# Altium schematic symbol library yu0316-NSC_LDO.SchLib: 2590 symbols (part 37 of 64)
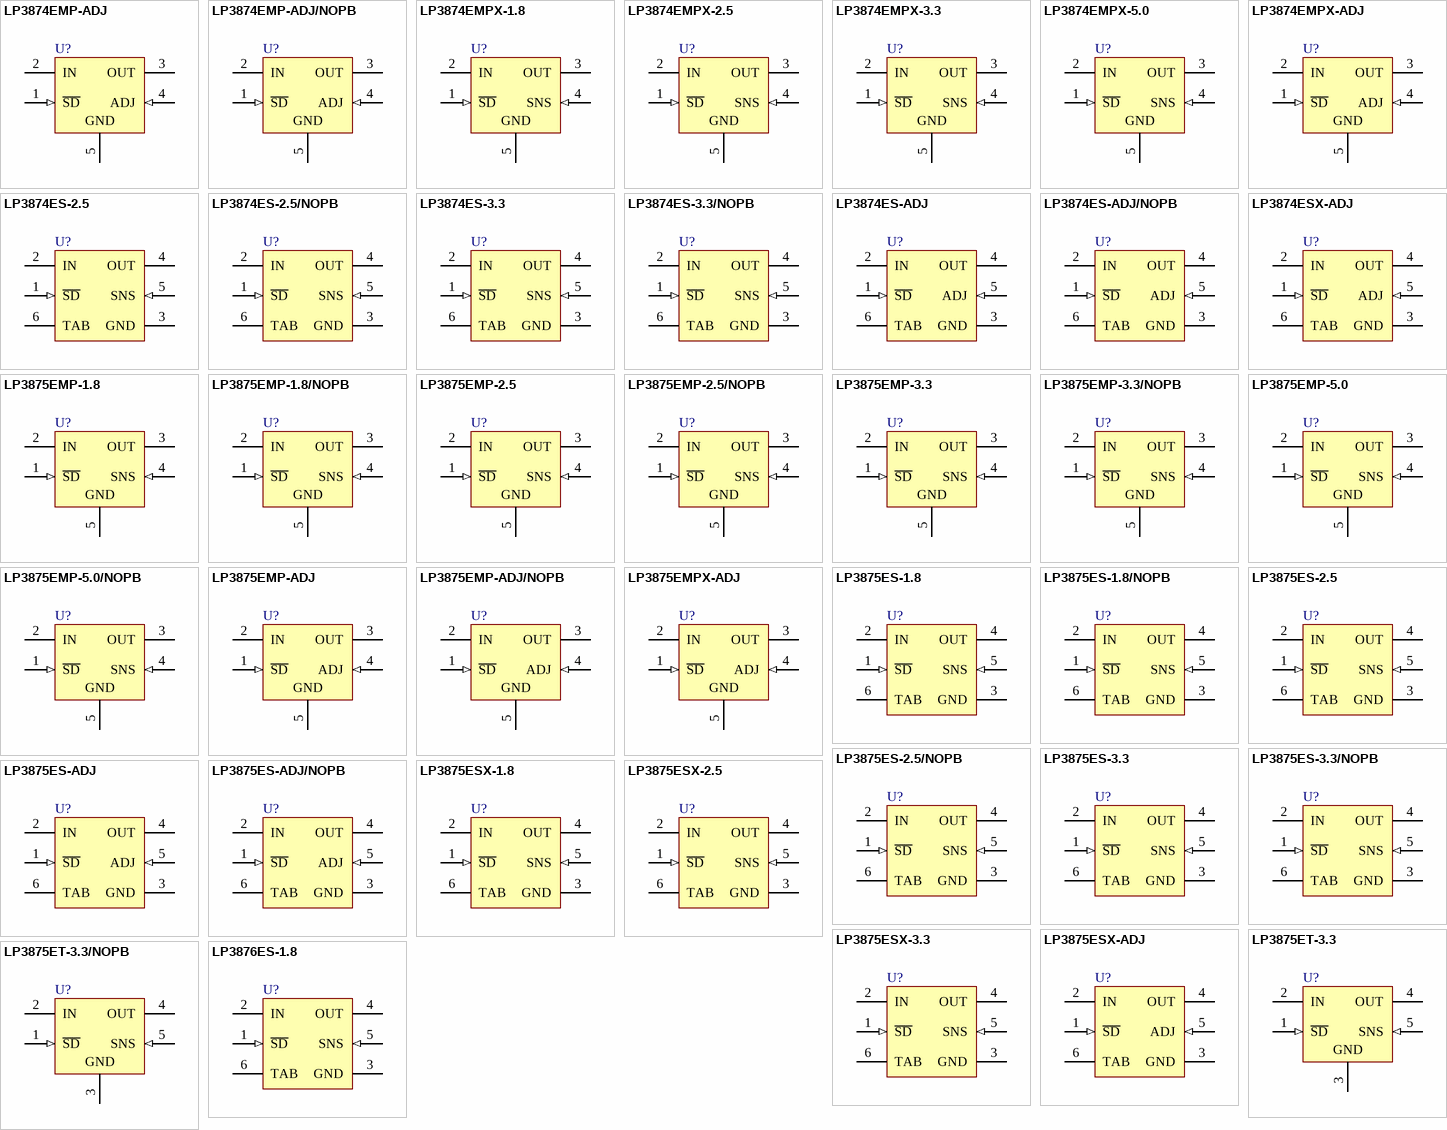
[diagram p101: symbols LP3874EMP-ADJ to LP3876ES-1.8]

## LP3875EMP-2.5
designator U?
1.5A Fast Ultra Low Dropout Linear Regulator, 5-pin SOT-223; PartNumber: LP3875EMP-2.5; Manufacturer: National Semiconductor; PackageTopMarking: XYTT*LHNB; PowerWise: N; CompType: LDO IC; Published: 4-Dec-2008; DatasheetVersion: Sep-2006; PackageVersion: revA, Jan-2000; PackageReference: MP05A; Publisher: Altium Limited; PackageDescription: Moldec SOT-223, 6.50 x 3.56 x 1.6mm Body, 5 Lead, 1.5mm Pitch; Supplier 1: Farnell; Supplier Part Number 1: 8188653; RoHS: N; PinCount: 5; Code_JEDEC: TO-261-AB; Code_IPC: SOT223-5; ComponentLink1Description: LP3875 Datasheet; ComponentLink1URL: http://www.national.com/ds/LP/LP3875.pdf; ComponentLink2Description: LP3875 Web Page; ComponentLink2URL: http://www.national.com/pf/LP/LP3875.html; ComponentLink3Description: MP05A Package Page; ComponentLink3URL: http://www.national.com/packaging/folders/mp05a.html
footprint MP05A_N (SOT223, 5-Leads, Body 6.5x3.5mm, Pitch 1.5mm, Lead Span 7mm, IPC Medium Density)
footprint MP05A_L (SOT223, 5-Leads, Body 6.5x3.5mm, Pitch 1.5mm, Lead Span 7mm, IPC High Density)
footprint MP05A_M (SOT223, 5-Leads, Body 6.5x3.5mm, Pitch 1.5mm, Lead Span 7mm, IPC Low Density)
pins: 1 ~{SD} (in), 2 IN (power), 3 OUT (power), 4 SNS (in), 5 GND (power)

## LP3875EMP-2.5/NOPB
designator U?
1.5A Fast Ultra Low Dropout Linear Regulator, 5-pin SOT-223, Pb-Free; PartNumber: LP3875EMP-2.5/NOPB; Manufacturer: National Semiconductor; PackageTopMarking: XYTT*LHNB; PowerWise: N; CompType: LDO IC; Published: 1-Mar-2010; DatasheetVersion: Sep-2006; PackageVersion: revA, Jan-2000; PackageReference: MP05A; Publisher: Altium Limited; PackageDescription: Moldec SOT-223, 6.50 x 3.56 x 1.6mm Body, 5 Lead, 1.5mm Pitch; Supplier 1: Digi-Key; Supplier Part Number 1: LP3875EMP-2.5TR-ND; Supplier 2: Digi-Key; Supplier Part Number 2: LP3875EMP-2.5CT-ND; Supplier 3: Digi-Key; Supplier Part Number 3: LP3875EMP-2.5DKR-ND; RoHS: Y; PinCount: 5; Code_JEDEC: TO-261-AB; Code_IPC: SOT223-5; ComponentLink1Description: LP3875 Datasheet; ComponentLink1URL: http://www.national.com/ds/LP/LP3875.pdf; ComponentLink2Description: LP3875 Web Page; ComponentLink2URL: http://www.national.com/pf/LP/LP3875.html; ComponentLink3Description: MP05A Package Page; ComponentLink3URL: http://www.national.com/packaging/folders/mp05a.html
footprint MP05A_N (SOT223, 5-Leads, Body 6.5x3.5mm, Pitch 1.5mm, Lead Span 7mm, IPC Medium Density)
footprint MP05A_L (SOT223, 5-Leads, Body 6.5x3.5mm, Pitch 1.5mm, Lead Span 7mm, IPC High Density)
footprint MP05A_M (SOT223, 5-Leads, Body 6.5x3.5mm, Pitch 1.5mm, Lead Span 7mm, IPC Low Density)
pins: 1 ~{SD} (in), 2 IN (power), 3 OUT (power), 4 SNS (in), 5 GND (power)

## LP3875EMP-3.3
designator U?
1.5A Fast Ultra Low Dropout Linear Regulator, 5-pin SOT-223; PartNumber: LP3875EMP-3.3; Manufacturer: National Semiconductor; PackageTopMarking: XYTT*LHPB; PowerWise: N; CompType: LDO IC; Published: 4-Dec-2008; DatasheetVersion: Sep-2006; PackageVersion: revA, Jan-2000; PackageReference: MP05A; Publisher: Altium Limited; PackageDescription: Moldec SOT-223, 6.50 x 3.56 x 1.6mm Body, 5 Lead, 1.5mm Pitch; Supplier 1: Farnell; Supplier Part Number 1: 8188661; RoHS: N; PinCount: 5; Code_JEDEC: TO-261-AB; Code_IPC: SOT223-5; ComponentLink1Description: LP3875 Datasheet; ComponentLink1URL: http://www.national.com/ds/LP/LP3875.pdf; ComponentLink2Description: LP3875 Web Page; ComponentLink2URL: http://www.national.com/pf/LP/LP3875.html; ComponentLink3Description: MP05A Package Page; ComponentLink3URL: http://www.national.com/packaging/folders/mp05a.html
footprint MP05A_N (SOT223, 5-Leads, Body 6.5x3.5mm, Pitch 1.5mm, Lead Span 7mm, IPC Medium Density)
footprint MP05A_L (SOT223, 5-Leads, Body 6.5x3.5mm, Pitch 1.5mm, Lead Span 7mm, IPC High Density)
footprint MP05A_M (SOT223, 5-Leads, Body 6.5x3.5mm, Pitch 1.5mm, Lead Span 7mm, IPC Low Density)
pins: 1 ~{SD} (in), 2 IN (power), 3 OUT (power), 4 SNS (in), 5 GND (power)

## LP3875EMP-3.3/NOPB
designator U?
1.5A Fast Ultra Low Dropout Linear Regulator, 5-pin SOT-223, Pb-Free; PartNumber: LP3875EMP-3.3/NOPB; Manufacturer: National Semiconductor; PackageTopMarking: XYTT*LHPB; PowerWise: N; CompType: LDO IC; Published: 1-Mar-2010; DatasheetVersion: Sep-2006; PackageVersion: revA, Jan-2000; PackageReference: MP05A; Publisher: Altium Limited; PackageDescription: Moldec SOT-223, 6.50 x 3.56 x 1.6mm Body, 5 Lead, 1.5mm Pitch; Supplier 1: Digi-Key; Supplier Part Number 1: LP3875EMP-3.3TR-ND; Supplier 2: Digi-Key; Supplier Part Number 2: LP3875EMP-3.3CT-ND; Supplier 3: Digi-Key; Supplier Part Number 3: LP3875EMP-3.3DKR-ND; Supplier 4: Farnell; Supplier Part Number 4: 1685728; RoHS: Y; PinCount: 5; Code_JEDEC: TO-261-AB; Code_IPC: SOT223-5; ComponentLink1Description: LP3875 Datasheet; ComponentLink1URL: http://www.national.com/ds/LP/LP3875.pdf; ComponentLink2Description: LP3875 Web Page; ComponentLink2URL: http://www.national.com/pf/LP/LP3875.html; ComponentLink3Description: MP05A Package Page; ComponentLink3URL: http://www.national.com/packaging/folders/mp05a.html
footprint MP05A_N (SOT223, 5-Leads, Body 6.5x3.5mm, Pitch 1.5mm, Lead Span 7mm, IPC Medium Density)
footprint MP05A_L (SOT223, 5-Leads, Body 6.5x3.5mm, Pitch 1.5mm, Lead Span 7mm, IPC High Density)
footprint MP05A_M (SOT223, 5-Leads, Body 6.5x3.5mm, Pitch 1.5mm, Lead Span 7mm, IPC Low Density)
pins: 1 ~{SD} (in), 2 IN (power), 3 OUT (power), 4 SNS (in), 5 GND (power)

## LP3875EMP-5.0
designator U?
1.5A Fast Ultra Low Dropout Linear Regulator, 5-pin SOT-223; PartNumber: LP3875EMP-5.0; Manufacturer: National Semiconductor; PackageTopMarking: XYTT*LHRB; PowerWise: N; CompType: LDO IC; Published: 4-Dec-2008; DatasheetVersion: Sep-2006; PackageVersion: revA, Jan-2000; PackageReference: MP05A; Publisher: Altium Limited; PackageDescription: Moldec SOT-223, 6.50 x 3.56 x 1.6mm Body, 5 Lead, 1.5mm Pitch; Supplier 1: Farnell; Supplier Part Number 1: 8188670; RoHS: N; PinCount: 5; Code_JEDEC: TO-261-AB; Code_IPC: SOT223-5; ComponentLink1Description: LP3875 Datasheet; ComponentLink1URL: http://www.national.com/ds/LP/LP3875.pdf; ComponentLink2Description: LP3875 Web Page; ComponentLink2URL: http://www.national.com/pf/LP/LP3875.html; ComponentLink3Description: MP05A Package Page; ComponentLink3URL: http://www.national.com/packaging/folders/mp05a.html
footprint MP05A_N (SOT223, 5-Leads, Body 6.5x3.5mm, Pitch 1.5mm, Lead Span 7mm, IPC Medium Density)
footprint MP05A_L (SOT223, 5-Leads, Body 6.5x3.5mm, Pitch 1.5mm, Lead Span 7mm, IPC High Density)
footprint MP05A_M (SOT223, 5-Leads, Body 6.5x3.5mm, Pitch 1.5mm, Lead Span 7mm, IPC Low Density)
pins: 1 ~{SD} (in), 2 IN (power), 3 OUT (power), 4 SNS (in), 5 GND (power)

## LP3875EMP-5.0/NOPB
designator U?
1.5A Fast Ultra Low Dropout Linear Regulator, 5-pin SOT-223, Pb-Free; PartNumber: LP3875EMP-5.0/NOPB; Manufacturer: National Semiconductor; PackageTopMarking: XYTT*LHRB; PowerWise: N; CompType: LDO IC; Published: 1-Mar-2010; DatasheetVersion: Sep-2006; PackageVersion: revA, Jan-2000; PackageReference: MP05A; Publisher: Altium Limited; PackageDescription: Moldec SOT-223, 6.50 x 3.56 x 1.6mm Body, 5 Lead, 1.5mm Pitch; Supplier 1: Digi-Key; Supplier Part Number 1: LP3875EMP-5.0TR-ND; Supplier 2: Digi-Key; Supplier Part Number 2: LP3875EMP-5.0CT-ND; Supplier 3: Digi-Key; Supplier Part Number 3: LP3875EMP-5.0DKR-ND; RoHS: Y; PinCount: 5; Code_JEDEC: TO-261-AB; Code_IPC: SOT223-5; ComponentLink1Description: LP3875 Datasheet; ComponentLink1URL: http://www.national.com/ds/LP/LP3875.pdf; ComponentLink2Description: LP3875 Web Page; ComponentLink2URL: http://www.national.com/pf/LP/LP3875.html; ComponentLink3Description: MP05A Package Page; ComponentLink3URL: http://www.national.com/packaging/folders/mp05a.html
footprint MP05A_N (SOT223, 5-Leads, Body 6.5x3.5mm, Pitch 1.5mm, Lead Span 7mm, IPC Medium Density)
footprint MP05A_L (SOT223, 5-Leads, Body 6.5x3.5mm, Pitch 1.5mm, Lead Span 7mm, IPC High Density)
footprint MP05A_M (SOT223, 5-Leads, Body 6.5x3.5mm, Pitch 1.5mm, Lead Span 7mm, IPC Low Density)
pins: 1 ~{SD} (in), 2 IN (power), 3 OUT (power), 4 SNS (in), 5 GND (power)

## LP3875EMP-ADJ
designator U?
1.5A Fast Ultra Low Dropout Linear Regulator, 5-pin SOT-223; PartNumber: LP3875EMP-ADJ; Manufacturer: National Semiconductor; PackageTopMarking: XYTT*LHSB; PowerWise: N; CompType: LDO IC; Published: 4-Dec-2008; DatasheetVersion: Sep-2006; PackageVersion: revA, Jan-2000; PackageReference: MP05A; Publisher: Altium Limited; PackageDescription: Moldec SOT-223, 6.50 x 3.56 x 1.6mm Body, 5 Lead, 1.5mm Pitch; Supplier 1: Farnell; Supplier Part Number 1: 8188688; RoHS: N; PinCount: 5; Code_JEDEC: TO-261-AB; Code_IPC: SOT223-5; ComponentLink1Description: LP3875 Datasheet; ComponentLink1URL: http://www.national.com/ds/LP/LP3875-ADJ.pdf; ComponentLink2Description: LP3875 Web Page; ComponentLink2URL: http://www.national.com/pf/LP/LP3875.html; ComponentLink3Description: MP05A Package Page; ComponentLink3URL: http://www.national.com/packaging/folders/mp05a.html
footprint MP05A_N (SOT223, 5-Leads, Body 6.5x3.5mm, Pitch 1.5mm, Lead Span 7mm, IPC Medium Density)
footprint MP05A_L (SOT223, 5-Leads, Body 6.5x3.5mm, Pitch 1.5mm, Lead Span 7mm, IPC High Density)
footprint MP05A_M (SOT223, 5-Leads, Body 6.5x3.5mm, Pitch 1.5mm, Lead Span 7mm, IPC Low Density)
pins: 1 ~{SD} (in), 2 IN (power), 3 OUT (power), 4 ADJ (in), 5 GND (power)

## LP3875EMP-ADJ/NOPB
designator U?
1.5A Fast Ultra Low Dropout Linear Regulator, 5-pin SOT-223, Pb-Free; PartNumber: LP3875EMP-ADJ/NOPB; Manufacturer: National Semiconductor; PackageTopMarking: XYTT*LHSB; PowerWise: N; CompType: LDO IC; Published: 1-Mar-2010; DatasheetVersion: Sep-2006; PackageVersion: revA, Jan-2000; PackageReference: MP05A; Publisher: Altium Limited; PackageDescription: Moldec SOT-223, 6.50 x 3.56 x 1.6mm Body, 5 Lead, 1.5mm Pitch; Supplier 1: Digi-Key; Supplier Part Number 1: LP3875EMP-ADJTR-ND; Supplier 2: Digi-Key; Supplier Part Number 2: LP3875EMP-ADJCT-ND; Supplier 3: Digi-Key; Supplier Part Number 3: LP3875EMP-ADJDKR-ND; Supplier 4: Farnell; Supplier Part Number 4: 1559669; RoHS: Y; PinCount: 5; Code_JEDEC: TO-261-AB; Code_IPC: SOT223-5; ComponentLink1Description: LP3875 Datasheet; ComponentLink1URL: http://www.national.com/ds/LP/LP3875-ADJ.pdf; ComponentLink2Description: LP3875 Web Page; ComponentLink2URL: http://www.national.com/pf/LP/LP3875.html; ComponentLink3Description: MP05A Package Page; ComponentLink3URL: http://www.national.com/packaging/folders/mp05a.html
footprint MP05A_N (SOT223, 5-Leads, Body 6.5x3.5mm, Pitch 1.5mm, Lead Span 7mm, IPC Medium Density)
footprint MP05A_L (SOT223, 5-Leads, Body 6.5x3.5mm, Pitch 1.5mm, Lead Span 7mm, IPC High Density)
footprint MP05A_M (SOT223, 5-Leads, Body 6.5x3.5mm, Pitch 1.5mm, Lead Span 7mm, IPC Low Density)
pins: 1 ~{SD} (in), 2 IN (power), 3 OUT (power), 4 ADJ (in), 5 GND (power)

## LP3875EMPX-ADJ
designator U?
1.5A Fast Ultra Low Dropout Linear Regulator, 5-pin SOT-223; PartNumber: LP3875EMPX-ADJ; Manufacturer: National Semiconductor; PackageTopMarking: XYTT*LHSB; PowerWise: N; CompType: LDO IC; Published: 1-Mar-2010; DatasheetVersion: Sep-2006; PackageVersion: revA, Jan-2000; PackageReference: MP05A; Publisher: Altium Limited; PackageDescription: Moldec SOT-223, 6.50 x 3.56 x 1.6mm Body, 5 Lead, 1.5mm Pitch; RoHS: N; PinCount: 5; Code_JEDEC: TO-261-AB; Code_IPC: SOT223-5; ComponentLink1Description: LP3875 Datasheet; ComponentLink1URL: http://www.national.com/ds/LP/LP3875-ADJ.pdf; ComponentLink2Description: LP3875 Web Page; ComponentLink2URL: http://www.national.com/pf/LP/LP3875.html; ComponentLink3Description: MP05A Package Page; ComponentLink3URL: http://www.national.com/packaging/folders/mp05a.html
footprint MP05A_N (SOT223, 5-Leads, Body 6.5x3.5mm, Pitch 1.5mm, Lead Span 7mm, IPC Medium Density)
footprint MP05A_L (SOT223, 5-Leads, Body 6.5x3.5mm, Pitch 1.5mm, Lead Span 7mm, IPC High Density)
footprint MP05A_M (SOT223, 5-Leads, Body 6.5x3.5mm, Pitch 1.5mm, Lead Span 7mm, IPC Low Density)
pins: 1 ~{SD} (in), 2 IN (power), 3 OUT (power), 4 ADJ (in), 5 GND (power)

## LP3875ES-1.8
designator U?
1.5A Fast Ultra Low Dropout Linear Regulator, 5-pin TO-263; PartNumber: LP3875ES-1.8; Manufacturer: National Semiconductor; PackageTopMarking: NSUZXYTTE#*LP3875ES*-1.8; PowerWise: N; CompType: LDO IC; Published: 4-Dec-2008; DatasheetVersion: Sep-2006; PackageVersion: revD, Apr-2005; PackageReference: TS5B; Publisher: Altium Limited; PackageDescription: TO-263, Molded, .400 x .390 x .180in, 5 Lead, .067in Pitch, Surface Mount; Supplier 1: Farnell; Supplier Part Number 1: 8206899; RoHS: N; PinCount: 5; Code_JEDEC: MO-169-AB; ComponentLink1Description: LP3875 Datasheet; ComponentLink1URL: http://www.national.com/ds/LP/LP3875.pdf; ComponentLink2Description: LP3875 Web Page; ComponentLink2URL: http://www.national.com/pf/LP/LP3875.html; ComponentLink3Description: TS5B Package Page; ComponentLink3URL: http://www.national.com/packaging/folders/ts5b.html
footprint TS5B_N (D2-PAK, 6-Leads, Body 8.6x10.2mm, Pitch 1.7mm, Lead Span 14.1mm, IPC Medium Density)
footprint TS5B_L (D2-PAK, 6-Leads, Body 8.6x10.2mm, Pitch 1.7mm, Lead Span 14.1mm, IPC High Density)
footprint TS5B_M (D2-PAK, 6-Leads, Body 8.6x10.2mm, Pitch 1.7mm, Lead Span 14.1mm, IPC Low Density)
pins: 1 ~{SD} (in), 2 IN (power), 3 GND (power), 4 OUT (power), 5 SNS (in), 6 TAB (power)

## LP3875ES-1.8/NOPB
designator U?
1.5A Fast Ultra Low Dropout Linear Regulator, 5-pin TO-263, Pb-Free; PartNumber: LP3875ES-1.8/NOPB; Manufacturer: National Semiconductor; PackageTopMarking: NSUZXYTTE#*LP3875ES*-1.8; PowerWise: N; CompType: LDO IC; Published: 1-Mar-2010; DatasheetVersion: Sep-2006; PackageVersion: revD, Apr-2005; PackageReference: TS5B; Publisher: Altium Limited; PackageDescription: TO-263, Molded, .400 x .390 x .180in, 5 Lead, .067in Pitch, Surface Mount; Supplier 1: Digi-Key; Supplier Part Number 1: LP3875ES-1.8-ND; Supplier 2: Farnell; Supplier Part Number 2: 1694046; RoHS: Y; PinCount: 5; Code_JEDEC: MO-169-AB; ComponentLink1Description: LP3875 Datasheet; ComponentLink1URL: http://www.national.com/ds/LP/LP3875.pdf; ComponentLink2Description: LP3875 Web Page; ComponentLink2URL: http://www.national.com/pf/LP/LP3875.html; ComponentLink3Description: TS5B Package Page; ComponentLink3URL: http://www.national.com/packaging/folders/ts5b.html
footprint TS5B_N (D2-PAK, 6-Leads, Body 8.6x10.2mm, Pitch 1.7mm, Lead Span 14.1mm, IPC Medium Density)
footprint TS5B_L (D2-PAK, 6-Leads, Body 8.6x10.2mm, Pitch 1.7mm, Lead Span 14.1mm, IPC High Density)
footprint TS5B_M (D2-PAK, 6-Leads, Body 8.6x10.2mm, Pitch 1.7mm, Lead Span 14.1mm, IPC Low Density)
pins: 1 ~{SD} (in), 2 IN (power), 3 GND (power), 4 OUT (power), 5 SNS (in), 6 TAB (power)

## LP3875ES-2.5
designator U?
1.5A Fast Ultra Low Dropout Linear Regulator, 5-pin TO-263; PartNumber: LP3875ES-2.5; Manufacturer: National Semiconductor; PackageTopMarking: NSUZXYTTE#*LP3875ES*-2.5; PowerWise: N; CompType: LDO IC; Published: 4-Dec-2008; DatasheetVersion: Sep-2006; PackageVersion: revD, Apr-2005; PackageReference: TS5B; Publisher: Altium Limited; PackageDescription: TO-263, Molded, .400 x .390 x .180in, 5 Lead, .067in Pitch, Surface Mount; Supplier 1: Farnell; Supplier Part Number 1: 8206902; RoHS: N; PinCount: 5; Code_JEDEC: MO-169-AB; ComponentLink1Description: LP3875 Datasheet; ComponentLink1URL: http://www.national.com/ds/LP/LP3875.pdf; ComponentLink2Description: LP3875 Web Page; ComponentLink2URL: http://www.national.com/pf/LP/LP3875.html; ComponentLink3Description: TS5B Package Page; ComponentLink3URL: http://www.national.com/packaging/folders/ts5b.html
footprint TS5B_N (D2-PAK, 6-Leads, Body 8.6x10.2mm, Pitch 1.7mm, Lead Span 14.1mm, IPC Medium Density)
footprint TS5B_L (D2-PAK, 6-Leads, Body 8.6x10.2mm, Pitch 1.7mm, Lead Span 14.1mm, IPC High Density)
footprint TS5B_M (D2-PAK, 6-Leads, Body 8.6x10.2mm, Pitch 1.7mm, Lead Span 14.1mm, IPC Low Density)
pins: 1 ~{SD} (in), 2 IN (power), 3 GND (power), 4 OUT (power), 5 SNS (in), 6 TAB (power)

## LP3875ES-2.5/NOPB
designator U?
1.5A Fast Ultra Low Dropout Linear Regulator, 5-pin TO-263, Pb-Free; PartNumber: LP3875ES-2.5/NOPB; Manufacturer: National Semiconductor; PackageTopMarking: NSUZXYTTE#*LP3875ES*-2.5; PowerWise: N; CompType: LDO IC; Published: 1-Mar-2010; DatasheetVersion: Sep-2006; PackageVersion: revD, Apr-2005; PackageReference: TS5B; Publisher: Altium Limited; PackageDescription: TO-263, Molded, .400 x .390 x .180in, 5 Lead, .067in Pitch, Surface Mount; Supplier 1: Digi-Key; Supplier Part Number 1: LP3875ES-2.5-ND; Supplier 2: Farnell; Supplier Part Number 2: 1685729; RoHS: Y; PinCount: 5; Code_JEDEC: MO-169-AB; ComponentLink1Description: LP3875 Datasheet; ComponentLink1URL: http://www.national.com/ds/LP/LP3875.pdf; ComponentLink2Description: LP3875 Web Page; ComponentLink2URL: http://www.national.com/pf/LP/LP3875.html; ComponentLink3Description: TS5B Package Page; ComponentLink3URL: http://www.national.com/packaging/folders/ts5b.html
footprint TS5B_N (D2-PAK, 6-Leads, Body 8.6x10.2mm, Pitch 1.7mm, Lead Span 14.1mm, IPC Medium Density)
footprint TS5B_L (D2-PAK, 6-Leads, Body 8.6x10.2mm, Pitch 1.7mm, Lead Span 14.1mm, IPC High Density)
footprint TS5B_M (D2-PAK, 6-Leads, Body 8.6x10.2mm, Pitch 1.7mm, Lead Span 14.1mm, IPC Low Density)
pins: 1 ~{SD} (in), 2 IN (power), 3 GND (power), 4 OUT (power), 5 SNS (in), 6 TAB (power)

## LP3875ES-3.3
designator U?
1.5A Fast Ultra Low Dropout Linear Regulator, 5-pin TO-263; PartNumber: LP3875ES-3.3; Manufacturer: National Semiconductor; PackageTopMarking: NSUZXYTTE#*LP3875ES*-3.3; PowerWise: N; CompType: LDO IC; Published: 4-Dec-2008; DatasheetVersion: Sep-2006; PackageVersion: revD, Apr-2005; PackageReference: TS5B; Publisher: Altium Limited; PackageDescription: TO-263, Molded, .400 x .390 x .180in, 5 Lead, .067in Pitch, Surface Mount; Supplier 1: Farnell; Supplier Part Number 1: 8206910; RoHS: N; PinCount: 5; Code_JEDEC: MO-169-AB; ComponentLink1Description: LP3875 Datasheet; ComponentLink1URL: http://www.national.com/ds/LP/LP3875.pdf; ComponentLink2Description: LP3875 Web Page; ComponentLink2URL: http://www.national.com/pf/LP/LP3875.html; ComponentLink3Description: TS5B Package Page; ComponentLink3URL: http://www.national.com/packaging/folders/ts5b.html
footprint TS5B_N (D2-PAK, 6-Leads, Body 8.6x10.2mm, Pitch 1.7mm, Lead Span 14.1mm, IPC Medium Density)
footprint TS5B_L (D2-PAK, 6-Leads, Body 8.6x10.2mm, Pitch 1.7mm, Lead Span 14.1mm, IPC High Density)
footprint TS5B_M (D2-PAK, 6-Leads, Body 8.6x10.2mm, Pitch 1.7mm, Lead Span 14.1mm, IPC Low Density)
pins: 1 ~{SD} (in), 2 IN (power), 3 GND (power), 4 OUT (power), 5 SNS (in), 6 TAB (power)

## LP3875ES-3.3/NOPB
designator U?
1.5A Fast Ultra Low Dropout Linear Regulator, 5-pin TO-263, Pb-Free; PartNumber: LP3875ES-3.3/NOPB; Manufacturer: National Semiconductor; PackageTopMarking: NSUZXYTTE#*LP3875ES*-3.3; PowerWise: N; CompType: LDO IC; Published: 1-Mar-2010; DatasheetVersion: Sep-2006; PackageVersion: revD, Apr-2005; PackageReference: TS5B; Publisher: Altium Limited; PackageDescription: TO-263, Molded, .400 x .390 x .180in, 5 Lead, .067in Pitch, Surface Mount; Supplier 1: Digi-Key; Supplier Part Number 1: LP3875ES-3.3-ND; Supplier 2: Farnell; Supplier Part Number 2: 1685730; RoHS: Y; PinCount: 5; Code_JEDEC: MO-169-AB; ComponentLink1Description: LP3875 Datasheet; ComponentLink1URL: http://www.national.com/ds/LP/LP3875.pdf; ComponentLink2Description: LP3875 Web Page; ComponentLink2URL: http://www.national.com/pf/LP/LP3875.html; ComponentLink3Description: TS5B Package Page; ComponentLink3URL: http://www.national.com/packaging/folders/ts5b.html
footprint TS5B_N (D2-PAK, 6-Leads, Body 8.6x10.2mm, Pitch 1.7mm, Lead Span 14.1mm, IPC Medium Density)
footprint TS5B_L (D2-PAK, 6-Leads, Body 8.6x10.2mm, Pitch 1.7mm, Lead Span 14.1mm, IPC High Density)
footprint TS5B_M (D2-PAK, 6-Leads, Body 8.6x10.2mm, Pitch 1.7mm, Lead Span 14.1mm, IPC Low Density)
pins: 1 ~{SD} (in), 2 IN (power), 3 GND (power), 4 OUT (power), 5 SNS (in), 6 TAB (power)

## LP3875ES-ADJ
designator U?
1.5A Fast Ultra Low Dropout Linear Regulator, 5-pin TO-263; PartNumber: LP3875ES-ADJ; Manufacturer: National Semiconductor; PackageTopMarking: NSUZXYTTE#*LP3875ES*ADJ; PowerWise: N; CompType: LDO IC; Published: 4-Dec-2008; DatasheetVersion: Sep-2006; PackageVersion: revD, Apr-2005; PackageReference: TS5B; Publisher: Altium Limited; PackageDescription: TO-263, Molded, .400 x .390 x .180in, 5 Lead, .067in Pitch, Surface Mount; Supplier 1: Farnell; Supplier Part Number 1: 8207321; RoHS: N; PinCount: 5; Code_JEDEC: MO-169-AB; ComponentLink1Description: LP3875 Datasheet; ComponentLink1URL: http://www.national.com/ds/LP/LP3875-ADJ.pdf; ComponentLink2Description: LP3875 Web Page; ComponentLink2URL: http://www.national.com/pf/LP/LP3875.html; ComponentLink3Description: TS5B Package Page; ComponentLink3URL: http://www.national.com/packaging/folders/ts5b.html
footprint TS5B_N (D2-PAK, 6-Leads, Body 8.6x10.2mm, Pitch 1.7mm, Lead Span 14.1mm, IPC Medium Density)
footprint TS5B_L (D2-PAK, 6-Leads, Body 8.6x10.2mm, Pitch 1.7mm, Lead Span 14.1mm, IPC High Density)
footprint TS5B_M (D2-PAK, 6-Leads, Body 8.6x10.2mm, Pitch 1.7mm, Lead Span 14.1mm, IPC Low Density)
pins: 1 ~{SD} (in), 2 IN (power), 3 GND (power), 4 OUT (power), 5 ADJ (in), 6 TAB (power)

## LP3875ES-ADJ/NOPB
designator U?
1.5A Fast Ultra Low Dropout Linear Regulator, 5-pin TO-263, Pb-Free; PartNumber: LP3875ES-ADJ/NOPB; Manufacturer: National Semiconductor; PackageTopMarking: NSUZXYTTE#*LP3875ES*ADJ; PowerWise: N; CompType: LDO IC; Published: 1-Mar-2010; DatasheetVersion: Sep-2006; PackageVersion: revD, Apr-2005; PackageReference: TS5B; Publisher: Altium Limited; PackageDescription: TO-263, Molded, .400 x .390 x .180in, 5 Lead, .067in Pitch, Surface Mount; Supplier 1: Digi-Key; Supplier Part Number 1: LP3875ES-ADJ-ND; Supplier 2: Farnell; Supplier Part Number 2: 1559672; RoHS: Y; PinCount: 5; Code_JEDEC: MO-169-AB; ComponentLink1Description: LP3875 Datasheet; ComponentLink1URL: http://www.national.com/ds/LP/LP3875-ADJ.pdf; ComponentLink2Description: LP3875 Web Page; ComponentLink2URL: http://www.national.com/pf/LP/LP3875.html; ComponentLink3Description: TS5B Package Page; ComponentLink3URL: http://www.national.com/packaging/folders/ts5b.html
footprint TS5B_N (D2-PAK, 6-Leads, Body 8.6x10.2mm, Pitch 1.7mm, Lead Span 14.1mm, IPC Medium Density)
footprint TS5B_L (D2-PAK, 6-Leads, Body 8.6x10.2mm, Pitch 1.7mm, Lead Span 14.1mm, IPC High Density)
footprint TS5B_M (D2-PAK, 6-Leads, Body 8.6x10.2mm, Pitch 1.7mm, Lead Span 14.1mm, IPC Low Density)
pins: 1 ~{SD} (in), 2 IN (power), 3 GND (power), 4 OUT (power), 5 ADJ (in), 6 TAB (power)

## LP3875ESX-1.8
designator U?
1.5A Fast Ultra Low Dropout Linear Regulator, 5-pin TO-263; PartNumber: LP3875ESX-1.8; Manufacturer: National Semiconductor; PackageTopMarking: NSUZXYTTE#*LP3875ES*-1.8; PowerWise: N; CompType: LDO IC; Published: 1-Mar-2010; DatasheetVersion: Sep-2006; PackageVersion: revD, Apr-2005; PackageReference: TS5B; Publisher: Altium Limited; PackageDescription: TO-263, Molded, .400 x .390 x .180in, 5 Lead, .067in Pitch, Surface Mount; RoHS: N; PinCount: 5; Code_JEDEC: MO-169-AB; ComponentLink1Description: LP3875 Datasheet; ComponentLink1URL: http://www.national.com/ds/LP/LP3875.pdf; ComponentLink2Description: LP3875 Web Page; ComponentLink2URL: http://www.national.com/pf/LP/LP3875.html; ComponentLink3Description: TS5B Package Page; ComponentLink3URL: http://www.national.com/packaging/folders/ts5b.html
footprint TS5B_N (D2-PAK, 6-Leads, Body 8.6x10.2mm, Pitch 1.7mm, Lead Span 14.1mm, IPC Medium Density)
footprint TS5B_L (D2-PAK, 6-Leads, Body 8.6x10.2mm, Pitch 1.7mm, Lead Span 14.1mm, IPC High Density)
footprint TS5B_M (D2-PAK, 6-Leads, Body 8.6x10.2mm, Pitch 1.7mm, Lead Span 14.1mm, IPC Low Density)
pins: 1 ~{SD} (in), 2 IN (power), 3 GND (power), 4 OUT (power), 5 SNS (in), 6 TAB (power)

## LP3875ESX-2.5
designator U?
1.5A Fast Ultra Low Dropout Linear Regulator, 5-pin TO-263; PartNumber: LP3875ESX-2.5; Manufacturer: National Semiconductor; PackageTopMarking: NSUZXYTTE#*LP3875ES*-2.5; PowerWise: N; CompType: LDO IC; Published: 1-Mar-2010; DatasheetVersion: Sep-2006; PackageVersion: revD, Apr-2005; PackageReference: TS5B; Publisher: Altium Limited; PackageDescription: TO-263, Molded, .400 x .390 x .180in, 5 Lead, .067in Pitch, Surface Mount; RoHS: N; PinCount: 5; Code_JEDEC: MO-169-AB; ComponentLink1Description: LP3875 Datasheet; ComponentLink1URL: http://www.national.com/ds/LP/LP3875.pdf; ComponentLink2Description: LP3875 Web Page; ComponentLink2URL: http://www.national.com/pf/LP/LP3875.html; ComponentLink3Description: TS5B Package Page; ComponentLink3URL: http://www.national.com/packaging/folders/ts5b.html
footprint TS5B_N (D2-PAK, 6-Leads, Body 8.6x10.2mm, Pitch 1.7mm, Lead Span 14.1mm, IPC Medium Density)
footprint TS5B_L (D2-PAK, 6-Leads, Body 8.6x10.2mm, Pitch 1.7mm, Lead Span 14.1mm, IPC High Density)
footprint TS5B_M (D2-PAK, 6-Leads, Body 8.6x10.2mm, Pitch 1.7mm, Lead Span 14.1mm, IPC Low Density)
pins: 1 ~{SD} (in), 2 IN (power), 3 GND (power), 4 OUT (power), 5 SNS (in), 6 TAB (power)

## LP3875ESX-3.3
designator U?
1.5A Fast Ultra Low Dropout Linear Regulator, 5-pin TO-263; PartNumber: LP3875ESX-3.3; Manufacturer: National Semiconductor; PackageTopMarking: NSUZXYTTE#*LP3875ES*-3.3; PowerWise: N; CompType: LDO IC; Published: 1-Mar-2010; DatasheetVersion: Sep-2006; PackageVersion: revD, Apr-2005; PackageReference: TS5B; Publisher: Altium Limited; PackageDescription: TO-263, Molded, .400 x .390 x .180in, 5 Lead, .067in Pitch, Surface Mount; RoHS: N; PinCount: 5; Code_JEDEC: MO-169-AB; ComponentLink1Description: LP3875 Datasheet; ComponentLink1URL: http://www.national.com/ds/LP/LP3875.pdf; ComponentLink2Description: LP3875 Web Page; ComponentLink2URL: http://www.national.com/pf/LP/LP3875.html; ComponentLink3Description: TS5B Package Page; ComponentLink3URL: http://www.national.com/packaging/folders/ts5b.html
footprint TS5B_N (D2-PAK, 6-Leads, Body 8.6x10.2mm, Pitch 1.7mm, Lead Span 14.1mm, IPC Medium Density)
footprint TS5B_L (D2-PAK, 6-Leads, Body 8.6x10.2mm, Pitch 1.7mm, Lead Span 14.1mm, IPC High Density)
footprint TS5B_M (D2-PAK, 6-Leads, Body 8.6x10.2mm, Pitch 1.7mm, Lead Span 14.1mm, IPC Low Density)
pins: 1 ~{SD} (in), 2 IN (power), 3 GND (power), 4 OUT (power), 5 SNS (in), 6 TAB (power)

## LP3875ESX-ADJ
designator U?
1.5A Fast Ultra Low Dropout Linear Regulator, 5-pin TO-263; PartNumber: LP3875ESX-ADJ; Manufacturer: National Semiconductor; PackageTopMarking: NSUZXYTTE#*LP3875ES*ADJ; PowerWise: N; CompType: LDO IC; Published: 1-Mar-2010; DatasheetVersion: Sep-2006; PackageVersion: revD, Apr-2005; PackageReference: TS5B; Publisher: Altium Limited; PackageDescription: TO-263, Molded, .400 x .390 x .180in, 5 Lead, .067in Pitch, Surface Mount; RoHS: N; PinCount: 5; Code_JEDEC: MO-169-AB; ComponentLink1Description: LP3875 Datasheet; ComponentLink1URL: http://www.national.com/ds/LP/LP3875-ADJ.pdf; ComponentLink2Description: LP3875 Web Page; ComponentLink2URL: http://www.national.com/pf/LP/LP3875.html; ComponentLink3Description: TS5B Package Page; ComponentLink3URL: http://www.national.com/packaging/folders/ts5b.html
footprint TS5B_N (D2-PAK, 6-Leads, Body 8.6x10.2mm, Pitch 1.7mm, Lead Span 14.1mm, IPC Medium Density)
footprint TS5B_L (D2-PAK, 6-Leads, Body 8.6x10.2mm, Pitch 1.7mm, Lead Span 14.1mm, IPC High Density)
footprint TS5B_M (D2-PAK, 6-Leads, Body 8.6x10.2mm, Pitch 1.7mm, Lead Span 14.1mm, IPC Low Density)
pins: 1 ~{SD} (in), 2 IN (power), 3 GND (power), 4 OUT (power), 5 ADJ (in), 6 TAB (power)

## LP3875ET-3.3
designator U?
1.5A Fast Ultra Low Dropout Linear Regulator, 5-pin TO-220; PartNumber: LP3875ET-3.3; Manufacturer: National Semiconductor; PackageTopMarking: NSUZXYTTE#*LP3875ET*-3.3; PowerWise: N; CompType: LDO IC; Published: 4-Dec-2008; DatasheetVersion: Sep-2006; PackageVersion: revA, Oct-1989; PackageReference: T05D; Publisher: Altium Limited; PackageDescription: TO-220, Molded, Stagger Bend, 5 Lead; Supplier 1: Farnell; Supplier Part Number 1: 8206953; RoHS: N; PinCount: 5; ComponentLink1Description: LP3875 Datasheet; ComponentLink1URL: http://www.national.com/ds/LP/LP3875.pdf; ComponentLink2Description: LP3875 Web Page; ComponentLink2URL: http://www.national.com/pf/LP/LP3875.html; ComponentLink3Description: T05D Package Page; ComponentLink3URL: http://www.national.com/packaging/folders/t05d.html
footprint T05D (TO, Thru-Hole, Vertical, Heatsink Mounted; 5 Bent Staggered Leads; Body 10.3x8.6x4.6mm, Pitch 1.7 mm)
pins: 1 ~{SD} (in), 2 IN (power), 3 GND (power), 4 OUT (power), 5 SNS (in)

## LP3875ET-3.3/NOPB
designator U?
1.5A Fast Ultra Low Dropout Linear Regulator, 5-pin TO-220, Pb-Free; PartNumber: LP3875ET-3.3/NOPB; Manufacturer: National Semiconductor; PackageTopMarking: NSUZXYTTE#*LP3875ET*-3.3; PowerWise: N; CompType: LDO IC; Published: 1-Mar-2010; DatasheetVersion: Sep-2006; PackageVersion: revA, Oct-1989; PackageReference: T05D; Publisher: Altium Limited; PackageDescription: TO-220, Molded, Stagger Bend, 5 Lead; Supplier 1: Digi-Key; Supplier Part Number 1: LP3875ET-3.3-ND; RoHS: Y; PinCount: 5; ComponentLink1Description: LP3875 Datasheet; ComponentLink1URL: http://www.national.com/ds/LP/LP3875.pdf; ComponentLink2Description: LP3875 Web Page; ComponentLink2URL: http://www.national.com/pf/LP/LP3875.html; ComponentLink3Description: T05D Package Page; ComponentLink3URL: http://www.national.com/packaging/folders/t05d.html
footprint T05D (TO, Thru-Hole, Vertical, Heatsink Mounted; 5 Bent Staggered Leads; Body 10.3x8.6x4.6mm, Pitch 1.7 mm)
pins: 1 ~{SD} (in), 2 IN (power), 3 GND (power), 4 OUT (power), 5 SNS (in)

## LP3876ES-1.8
designator U?
3A Fast Ultra Low Dropout Linear Regulator, 5-pin TO-263; PartNumber: LP3876ES-1.8; Manufacturer: National Semiconductor; PackageTopMarking: NSUZXYTTE#*LP3876ES*-1.8; PowerWise: N; CompType: LDO IC; Published: 4-Dec-2008; DatasheetVersion: Sep-2006; PackageVersion: revD, Apr-2005; PackageReference: TS5B; Publisher: Altium Limited; PackageDescription: TO-263, Molded, .400 x .390 x .180in, 5 Lead, .067in Pitch, Surface Mount; Supplier 1: Farnell; Supplier Part Number 1: 8206970; RoHS: N; PinCount: 5; Code_JEDEC: MO-169-AB; ComponentLink1Description: LP3876 Datasheet; ComponentLink1URL: http://www.national.com/ds/LP/LP3876.pdf; ComponentLink2Description: LP3876 Web Page; ComponentLink2URL: http://www.national.com/pf/LP/LP3876.html; ComponentLink3Description: TS5B Package Page; ComponentLink3URL: http://www.national.com/packaging/folders/ts5b.html
footprint TS5B_N (D2-PAK, 6-Leads, Body 8.6x10.2mm, Pitch 1.7mm, Lead Span 14.1mm, IPC Medium Density)
footprint TS5B_L (D2-PAK, 6-Leads, Body 8.6x10.2mm, Pitch 1.7mm, Lead Span 14.1mm, IPC High Density)
footprint TS5B_M (D2-PAK, 6-Leads, Body 8.6x10.2mm, Pitch 1.7mm, Lead Span 14.1mm, IPC Low Density)
pins: 1 ~{SD} (in), 2 IN (power), 3 GND (power), 4 OUT (power), 5 SNS (in), 6 TAB (power)

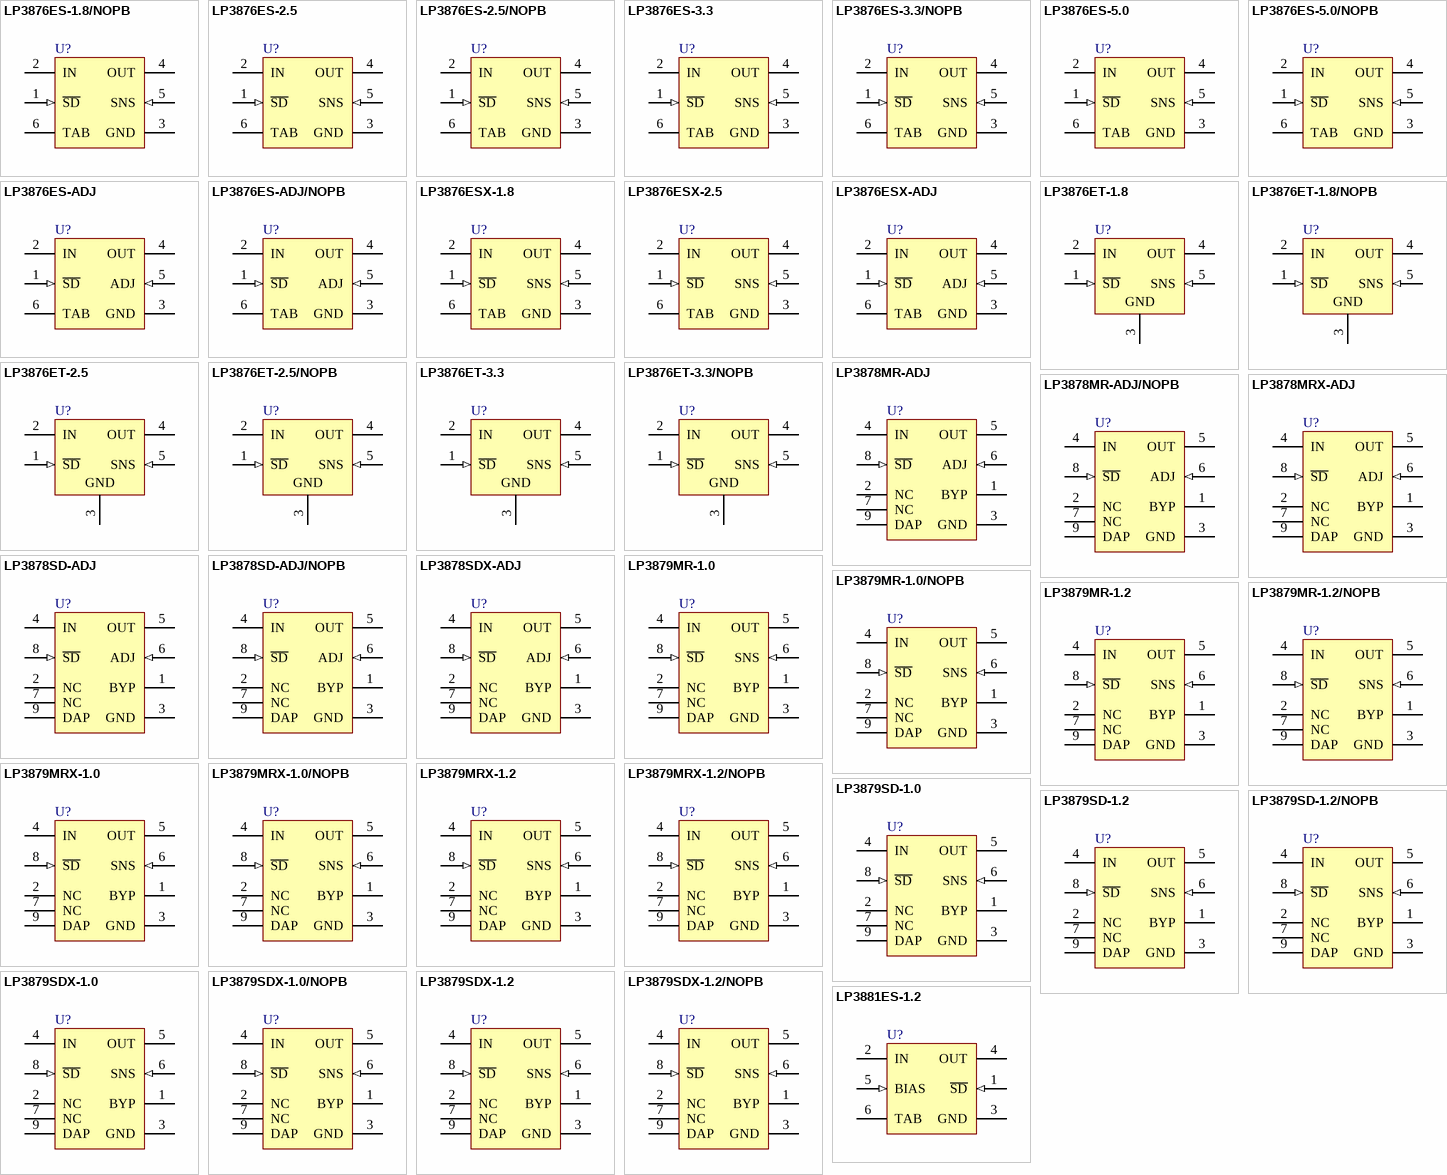
[diagram p38: symbols LP3876ES-1.8/NOPB to LP3881ES-1.2]

## LP3876ES-1.8/NOPB
designator U?
3A Fast Ultra Low Dropout Linear Regulator, 5-pin TO-263, Pb-Free; PartNumber: LP3876ES-1.8/NOPB; Manufacturer: National Semiconductor; PackageTopMarking: NSUZXYTTE#*LP3876ES*-1.8; PowerWise: N; CompType: LDO IC; Published: 1-Mar-2010; DatasheetVersion: Sep-2006; PackageVersion: revD, Apr-2005; PackageReference: TS5B; Publisher: Altium Limited; PackageDescription: TO-263, Molded, .400 x .390 x .180in, 5 Lead, .067in Pitch, Surface Mount; Supplier 1: Digi-Key; Supplier Part Number 1: LP3876ES-1.8-ND; Supplier 2: Farnell; Supplier Part Number 2: 1685731; RoHS: Y; PinCount: 5; Code_JEDEC: MO-169-AB; ComponentLink1Description: LP3876 Datasheet; ComponentLink1URL: http://www.national.com/ds/LP/LP3876.pdf; ComponentLink2Description: LP3876 Web Page; ComponentLink2URL: http://www.national.com/pf/LP/LP3876.html; ComponentLink3Description: TS5B Package Page; ComponentLink3URL: http://www.national.com/packaging/folders/ts5b.html
footprint TS5B_N (D2-PAK, 6-Leads, Body 8.6x10.2mm, Pitch 1.7mm, Lead Span 14.1mm, IPC Medium Density)
footprint TS5B_L (D2-PAK, 6-Leads, Body 8.6x10.2mm, Pitch 1.7mm, Lead Span 14.1mm, IPC High Density)
footprint TS5B_M (D2-PAK, 6-Leads, Body 8.6x10.2mm, Pitch 1.7mm, Lead Span 14.1mm, IPC Low Density)
pins: 1 ~{SD} (in), 2 IN (power), 3 GND (power), 4 OUT (power), 5 SNS (in), 6 TAB (power)

## LP3876ES-2.5
designator U?
3A Fast Ultra Low Dropout Linear Regulator, 5-pin TO-263; PartNumber: LP3876ES-2.5; Manufacturer: National Semiconductor; PackageTopMarking: NSUZXYTTE#*LP3876ES*-2.5; PowerWise: N; CompType: LDO IC; Published: 4-Dec-2008; DatasheetVersion: Sep-2006; PackageVersion: revD, Apr-2005; PackageReference: TS5B; Publisher: Altium Limited; PackageDescription: TO-263, Molded, .400 x .390 x .180in, 5 Lead, .067in Pitch, Surface Mount; Supplier 1: Farnell; Supplier Part Number 1: 8206988; RoHS: N; PinCount: 5; Code_JEDEC: MO-169-AB; ComponentLink1Description: LP3876 Datasheet; ComponentLink1URL: http://www.national.com/ds/LP/LP3876.pdf; ComponentLink2Description: LP3876 Web Page; ComponentLink2URL: http://www.national.com/pf/LP/LP3876.html; ComponentLink3Description: TS5B Package Page; ComponentLink3URL: http://www.national.com/packaging/folders/ts5b.html
footprint TS5B_N (D2-PAK, 6-Leads, Body 8.6x10.2mm, Pitch 1.7mm, Lead Span 14.1mm, IPC Medium Density)
footprint TS5B_L (D2-PAK, 6-Leads, Body 8.6x10.2mm, Pitch 1.7mm, Lead Span 14.1mm, IPC High Density)
footprint TS5B_M (D2-PAK, 6-Leads, Body 8.6x10.2mm, Pitch 1.7mm, Lead Span 14.1mm, IPC Low Density)
pins: 1 ~{SD} (in), 2 IN (power), 3 GND (power), 4 OUT (power), 5 SNS (in), 6 TAB (power)

## LP3876ES-2.5/NOPB
designator U?
3A Fast Ultra Low Dropout Linear Regulator, 5-pin TO-263, Pb-Free; PartNumber: LP3876ES-2.5/NOPB; Manufacturer: National Semiconductor; PackageTopMarking: NSUZXYTTE#*LP3876ES*-2.5; PowerWise: N; CompType: LDO IC; Published: 1-Mar-2010; DatasheetVersion: Sep-2006; PackageVersion: revD, Apr-2005; PackageReference: TS5B; Publisher: Altium Limited; PackageDescription: TO-263, Molded, .400 x .390 x .180in, 5 Lead, .067in Pitch, Surface Mount; Supplier 1: Digi-Key; Supplier Part Number 1: LP3876ES-2.5-ND; Supplier 2: Farnell; Supplier Part Number 2: 1685732; RoHS: Y; PinCount: 5; Code_JEDEC: MO-169-AB; ComponentLink1Description: LP3876 Datasheet; ComponentLink1URL: http://www.national.com/ds/LP/LP3876.pdf; ComponentLink2Description: LP3876 Web Page; ComponentLink2URL: http://www.national.com/pf/LP/LP3876.html; ComponentLink3Description: TS5B Package Page; ComponentLink3URL: http://www.national.com/packaging/folders/ts5b.html
footprint TS5B_N (D2-PAK, 6-Leads, Body 8.6x10.2mm, Pitch 1.7mm, Lead Span 14.1mm, IPC Medium Density)
footprint TS5B_L (D2-PAK, 6-Leads, Body 8.6x10.2mm, Pitch 1.7mm, Lead Span 14.1mm, IPC High Density)
footprint TS5B_M (D2-PAK, 6-Leads, Body 8.6x10.2mm, Pitch 1.7mm, Lead Span 14.1mm, IPC Low Density)
pins: 1 ~{SD} (in), 2 IN (power), 3 GND (power), 4 OUT (power), 5 SNS (in), 6 TAB (power)

## LP3876ES-3.3
designator U?
3A Fast Ultra Low Dropout Linear Regulator, 5-pin TO-263; PartNumber: LP3876ES-3.3; Manufacturer: National Semiconductor; PackageTopMarking: NSUZXYTTE#*LP3876ES*-3.3; PowerWise: N; CompType: LDO IC; Published: 4-Dec-2008; DatasheetVersion: Sep-2006; PackageVersion: revD, Apr-2005; PackageReference: TS5B; Publisher: Altium Limited; PackageDescription: TO-263, Molded, .400 x .390 x .180in, 5 Lead, .067in Pitch, Surface Mount; Supplier 1: Farnell; Supplier Part Number 1: 8206996; RoHS: N; PinCount: 5; Code_JEDEC: MO-169-AB; ComponentLink1Description: LP3876 Datasheet; ComponentLink1URL: http://www.national.com/ds/LP/LP3876.pdf; ComponentLink2Description: LP3876 Web Page; ComponentLink2URL: http://www.national.com/pf/LP/LP3876.html; ComponentLink3Description: TS5B Package Page; ComponentLink3URL: http://www.national.com/packaging/folders/ts5b.html
footprint TS5B_N (D2-PAK, 6-Leads, Body 8.6x10.2mm, Pitch 1.7mm, Lead Span 14.1mm, IPC Medium Density)
footprint TS5B_L (D2-PAK, 6-Leads, Body 8.6x10.2mm, Pitch 1.7mm, Lead Span 14.1mm, IPC High Density)
footprint TS5B_M (D2-PAK, 6-Leads, Body 8.6x10.2mm, Pitch 1.7mm, Lead Span 14.1mm, IPC Low Density)
pins: 1 ~{SD} (in), 2 IN (power), 3 GND (power), 4 OUT (power), 5 SNS (in), 6 TAB (power)

## LP3876ES-3.3/NOPB
designator U?
3A Fast Ultra Low Dropout Linear Regulator, 5-pin TO-263, Pb-Free; PartNumber: LP3876ES-3.3/NOPB; Manufacturer: National Semiconductor; PackageTopMarking: NSUZXYTTE#*LP3876ES*-3.3; PowerWise: N; CompType: LDO IC; Published: 1-Mar-2010; DatasheetVersion: Sep-2006; PackageVersion: revD, Apr-2005; PackageReference: TS5B; Publisher: Altium Limited; PackageDescription: TO-263, Molded, .400 x .390 x .180in, 5 Lead, .067in Pitch, Surface Mount; Supplier 1: Digi-Key; Supplier Part Number 1: LP3876ES-3.3-ND; Supplier 2: Farnell; Supplier Part Number 2: 1559681; RoHS: Y; PinCount: 5; Code_JEDEC: MO-169-AB; ComponentLink1Description: LP3876 Datasheet; ComponentLink1URL: http://www.national.com/ds/LP/LP3876.pdf; ComponentLink2Description: LP3876 Web Page; ComponentLink2URL: http://www.national.com/pf/LP/LP3876.html; ComponentLink3Description: TS5B Package Page; ComponentLink3URL: http://www.national.com/packaging/folders/ts5b.html
footprint TS5B_N (D2-PAK, 6-Leads, Body 8.6x10.2mm, Pitch 1.7mm, Lead Span 14.1mm, IPC Medium Density)
footprint TS5B_L (D2-PAK, 6-Leads, Body 8.6x10.2mm, Pitch 1.7mm, Lead Span 14.1mm, IPC High Density)
footprint TS5B_M (D2-PAK, 6-Leads, Body 8.6x10.2mm, Pitch 1.7mm, Lead Span 14.1mm, IPC Low Density)
pins: 1 ~{SD} (in), 2 IN (power), 3 GND (power), 4 OUT (power), 5 SNS (in), 6 TAB (power)

## LP3876ES-5.0
designator U?
3A Fast Ultra Low Dropout Linear Regulator, 5-pin TO-263; PartNumber: LP3876ES-5.0; Manufacturer: National Semiconductor; PackageTopMarking: NSUZXYTTE#*LP3876ES*-5.0; PowerWise: N; CompType: LDO IC; Published: 4-Dec-2008; DatasheetVersion: Sep-2006; PackageVersion: revD, Apr-2005; PackageReference: TS5B; Publisher: Altium Limited; PackageDescription: TO-263, Molded, .400 x .390 x .180in, 5 Lead, .067in Pitch, Surface Mount; Supplier 1: Farnell; Supplier Part Number 1: 8207003; RoHS: N; PinCount: 5; Code_JEDEC: MO-169-AB; ComponentLink1Description: LP3876 Datasheet; ComponentLink1URL: http://www.national.com/ds/LP/LP3876.pdf; ComponentLink2Description: LP3876 Web Page; ComponentLink2URL: http://www.national.com/pf/LP/LP3876.html; ComponentLink3Description: TS5B Package Page; ComponentLink3URL: http://www.national.com/packaging/folders/ts5b.html
footprint TS5B_N (D2-PAK, 6-Leads, Body 8.6x10.2mm, Pitch 1.7mm, Lead Span 14.1mm, IPC Medium Density)
footprint TS5B_L (D2-PAK, 6-Leads, Body 8.6x10.2mm, Pitch 1.7mm, Lead Span 14.1mm, IPC High Density)
footprint TS5B_M (D2-PAK, 6-Leads, Body 8.6x10.2mm, Pitch 1.7mm, Lead Span 14.1mm, IPC Low Density)
pins: 1 ~{SD} (in), 2 IN (power), 3 GND (power), 4 OUT (power), 5 SNS (in), 6 TAB (power)

## LP3876ES-5.0/NOPB
designator U?
3A Fast Ultra Low Dropout Linear Regulator, 5-pin TO-263, Pb-Free; PartNumber: LP3876ES-5.0/NOPB; Manufacturer: National Semiconductor; PackageTopMarking: NSUZXYTTE#*LP3876ES*-5.0; PowerWise: N; CompType: LDO IC; Published: 1-Mar-2010; DatasheetVersion: Sep-2006; PackageVersion: revD, Apr-2005; PackageReference: TS5B; Publisher: Altium Limited; PackageDescription: TO-263, Molded, .400 x .390 x .180in, 5 Lead, .067in Pitch, Surface Mount; Supplier 1: Digi-Key; Supplier Part Number 1: LP3876ES-5.0-ND; RoHS: Y; PinCount: 5; Code_JEDEC: MO-169-AB; ComponentLink1Description: LP3876 Datasheet; ComponentLink1URL: http://www.national.com/ds/LP/LP3876.pdf; ComponentLink2Description: LP3876 Web Page; ComponentLink2URL: http://www.national.com/pf/LP/LP3876.html; ComponentLink3Description: TS5B Package Page; ComponentLink3URL: http://www.national.com/packaging/folders/ts5b.html
footprint TS5B_N (D2-PAK, 6-Leads, Body 8.6x10.2mm, Pitch 1.7mm, Lead Span 14.1mm, IPC Medium Density)
footprint TS5B_L (D2-PAK, 6-Leads, Body 8.6x10.2mm, Pitch 1.7mm, Lead Span 14.1mm, IPC High Density)
footprint TS5B_M (D2-PAK, 6-Leads, Body 8.6x10.2mm, Pitch 1.7mm, Lead Span 14.1mm, IPC Low Density)
pins: 1 ~{SD} (in), 2 IN (power), 3 GND (power), 4 OUT (power), 5 SNS (in), 6 TAB (power)

## LP3876ES-ADJ
designator U?
3A Fast Ultra Low Dropout Linear Regulator, 5-pin TO-263; PartNumber: LP3876ES-ADJ; Manufacturer: National Semiconductor; PackageTopMarking: NSUZXYTTE#*LP3876ES*ADJ; PowerWise: N; CompType: LDO IC; Published: 4-Dec-2008; DatasheetVersion: Sep-2006; PackageVersion: revD, Apr-2005; PackageReference: TS5B; Publisher: Altium Limited; PackageDescription: TO-263, Molded, .400 x .390 x .180in, 5 Lead, .067in Pitch, Surface Mount; Supplier 1: Farnell; Supplier Part Number 1: 8207348; RoHS: N; PinCount: 5; Code_JEDEC: MO-169-AB; ComponentLink1Description: LP3876 Datasheet; ComponentLink1URL: http://www.national.com/ds/LP/LP3876-ADJ.pdf; ComponentLink2Description: LP3876 Web Page; ComponentLink2URL: http://www.national.com/pf/LP/LP3876.html; ComponentLink3Description: TS5B Package Page; ComponentLink3URL: http://www.national.com/packaging/folders/ts5b.html
footprint TS5B_N (D2-PAK, 6-Leads, Body 8.6x10.2mm, Pitch 1.7mm, Lead Span 14.1mm, IPC Medium Density)
footprint TS5B_L (D2-PAK, 6-Leads, Body 8.6x10.2mm, Pitch 1.7mm, Lead Span 14.1mm, IPC High Density)
footprint TS5B_M (D2-PAK, 6-Leads, Body 8.6x10.2mm, Pitch 1.7mm, Lead Span 14.1mm, IPC Low Density)
pins: 1 ~{SD} (in), 2 IN (power), 3 GND (power), 4 OUT (power), 5 ADJ (in), 6 TAB (power)

## LP3876ES-ADJ/NOPB
designator U?
3A Fast Ultra Low Dropout Linear Regulator, 5-pin TO-263, Pb-Free; PartNumber: LP3876ES-ADJ/NOPB; Manufacturer: National Semiconductor; PackageTopMarking: NSUZXYTTE#*LP3876ES*ADJ; PowerWise: N; CompType: LDO IC; Published: 1-Mar-2010; DatasheetVersion: Sep-2006; PackageVersion: revD, Apr-2005; PackageReference: TS5B; Publisher: Altium Limited; PackageDescription: TO-263, Molded, .400 x .390 x .180in, 5 Lead, .067in Pitch, Surface Mount; Supplier 1: Digi-Key; Supplier Part Number 1: LP3876ES-ADJ-ND; Supplier 2: Farnell; Supplier Part Number 2: 1559676; RoHS: Y; PinCount: 5; Code_JEDEC: MO-169-AB; ComponentLink1Description: LP3876 Datasheet; ComponentLink1URL: http://www.national.com/ds/LP/LP3876-ADJ.pdf; ComponentLink2Description: LP3876 Web Page; ComponentLink2URL: http://www.national.com/pf/LP/LP3876.html; ComponentLink3Description: TS5B Package Page; ComponentLink3URL: http://www.national.com/packaging/folders/ts5b.html
footprint TS5B_N (D2-PAK, 6-Leads, Body 8.6x10.2mm, Pitch 1.7mm, Lead Span 14.1mm, IPC Medium Density)
footprint TS5B_L (D2-PAK, 6-Leads, Body 8.6x10.2mm, Pitch 1.7mm, Lead Span 14.1mm, IPC High Density)
footprint TS5B_M (D2-PAK, 6-Leads, Body 8.6x10.2mm, Pitch 1.7mm, Lead Span 14.1mm, IPC Low Density)
pins: 1 ~{SD} (in), 2 IN (power), 3 GND (power), 4 OUT (power), 5 ADJ (in), 6 TAB (power)

## LP3876ESX-1.8
designator U?
3A Fast Ultra Low Dropout Linear Regulator, 5-pin TO-263; PartNumber: LP3876ESX-1.8; Manufacturer: National Semiconductor; PackageTopMarking: NSUZXYTTE#*LP3876ES*-1.8; PowerWise: N; CompType: LDO IC; Published: 1-Mar-2010; DatasheetVersion: Sep-2006; PackageVersion: revD, Apr-2005; PackageReference: TS5B; Publisher: Altium Limited; PackageDescription: TO-263, Molded, .400 x .390 x .180in, 5 Lead, .067in Pitch, Surface Mount; RoHS: N; PinCount: 5; Code_JEDEC: MO-169-AB; ComponentLink1Description: LP3876 Datasheet; ComponentLink1URL: http://www.national.com/ds/LP/LP3876.pdf; ComponentLink2Description: LP3876 Web Page; ComponentLink2URL: http://www.national.com/pf/LP/LP3876.html; ComponentLink3Description: TS5B Package Page; ComponentLink3URL: http://www.national.com/packaging/folders/ts5b.html
footprint TS5B_N (D2-PAK, 6-Leads, Body 8.6x10.2mm, Pitch 1.7mm, Lead Span 14.1mm, IPC Medium Density)
footprint TS5B_L (D2-PAK, 6-Leads, Body 8.6x10.2mm, Pitch 1.7mm, Lead Span 14.1mm, IPC High Density)
footprint TS5B_M (D2-PAK, 6-Leads, Body 8.6x10.2mm, Pitch 1.7mm, Lead Span 14.1mm, IPC Low Density)
pins: 1 ~{SD} (in), 2 IN (power), 3 GND (power), 4 OUT (power), 5 SNS (in), 6 TAB (power)

## LP3876ESX-2.5
designator U?
3A Fast Ultra Low Dropout Linear Regulator, 5-pin TO-263; PartNumber: LP3876ESX-2.5; Manufacturer: National Semiconductor; PackageTopMarking: NSUZXYTTE#*LP3876ES*-2.5; PowerWise: N; CompType: LDO IC; Published: 1-Mar-2010; DatasheetVersion: Sep-2006; PackageVersion: revD, Apr-2005; PackageReference: TS5B; Publisher: Altium Limited; PackageDescription: TO-263, Molded, .400 x .390 x .180in, 5 Lead, .067in Pitch, Surface Mount; RoHS: N; PinCount: 5; Code_JEDEC: MO-169-AB; ComponentLink1Description: LP3876 Datasheet; ComponentLink1URL: http://www.national.com/ds/LP/LP3876.pdf; ComponentLink2Description: LP3876 Web Page; ComponentLink2URL: http://www.national.com/pf/LP/LP3876.html; ComponentLink3Description: TS5B Package Page; ComponentLink3URL: http://www.national.com/packaging/folders/ts5b.html
footprint TS5B_N (D2-PAK, 6-Leads, Body 8.6x10.2mm, Pitch 1.7mm, Lead Span 14.1mm, IPC Medium Density)
footprint TS5B_L (D2-PAK, 6-Leads, Body 8.6x10.2mm, Pitch 1.7mm, Lead Span 14.1mm, IPC High Density)
footprint TS5B_M (D2-PAK, 6-Leads, Body 8.6x10.2mm, Pitch 1.7mm, Lead Span 14.1mm, IPC Low Density)
pins: 1 ~{SD} (in), 2 IN (power), 3 GND (power), 4 OUT (power), 5 SNS (in), 6 TAB (power)

## LP3876ESX-ADJ
designator U?
3A Fast Ultra Low Dropout Linear Regulator, 5-pin TO-263; PartNumber: LP3876ESX-ADJ; Manufacturer: National Semiconductor; PackageTopMarking: NSUZXYTTE#*LP3876ES*ADJ; PowerWise: N; CompType: LDO IC; Published: 1-Mar-2010; DatasheetVersion: Sep-2006; PackageVersion: revD, Apr-2005; PackageReference: TS5B; Publisher: Altium Limited; PackageDescription: TO-263, Molded, .400 x .390 x .180in, 5 Lead, .067in Pitch, Surface Mount; RoHS: N; PinCount: 5; Code_JEDEC: MO-169-AB; ComponentLink1Description: LP3876 Datasheet; ComponentLink1URL: http://www.national.com/ds/LP/LP3876-ADJ.pdf; ComponentLink2Description: LP3876 Web Page; ComponentLink2URL: http://www.national.com/pf/LP/LP3876.html; ComponentLink3Description: TS5B Package Page; ComponentLink3URL: http://www.national.com/packaging/folders/ts5b.html
footprint TS5B_N (D2-PAK, 6-Leads, Body 8.6x10.2mm, Pitch 1.7mm, Lead Span 14.1mm, IPC Medium Density)
footprint TS5B_L (D2-PAK, 6-Leads, Body 8.6x10.2mm, Pitch 1.7mm, Lead Span 14.1mm, IPC High Density)
footprint TS5B_M (D2-PAK, 6-Leads, Body 8.6x10.2mm, Pitch 1.7mm, Lead Span 14.1mm, IPC Low Density)
pins: 1 ~{SD} (in), 2 IN (power), 3 GND (power), 4 OUT (power), 5 ADJ (in), 6 TAB (power)

## LP3876ET-1.8
designator U?
3A Fast Ultra Low Dropout Linear Regulator, 5-pin TO-220; PartNumber: LP3876ET-1.8; Manufacturer: National Semiconductor; PackageTopMarking: NSUZXYTTE#*LP3876ET*-1.8; PowerWise: N; CompType: LDO IC; Published: 4-Dec-2008; DatasheetVersion: Sep-2006; PackageVersion: revA, Oct-1989; PackageReference: T05D; Publisher: Altium Limited; PackageDescription: TO-220, Molded, Stagger Bend, 5 Lead; Supplier 1: Farnell; Supplier Part Number 1: 8207011; RoHS: N; PinCount: 5; ComponentLink1Description: LP3876 Datasheet; ComponentLink1URL: http://www.national.com/ds/LP/LP3876.pdf; ComponentLink2Description: LP3876 Web Page; ComponentLink2URL: http://www.national.com/pf/LP/LP3876.html; ComponentLink3Description: T05D Package Page; ComponentLink3URL: http://www.national.com/packaging/folders/t05d.html
footprint T05D (TO, Thru-Hole, Vertical, Heatsink Mounted; 5 Bent Staggered Leads; Body 10.3x8.6x4.6mm, Pitch 1.7 mm)
pins: 1 ~{SD} (in), 2 IN (power), 3 GND (power), 4 OUT (power), 5 SNS (in)

## LP3876ET-1.8/NOPB
designator U?
3A Fast Ultra Low Dropout Linear Regulator, 5-pin TO-220, Pb-Free; PartNumber: LP3876ET-1.8/NOPB; Manufacturer: National Semiconductor; PackageTopMarking: NSUZXYTTE#*LP3876ET*-1.8; PowerWise: N; CompType: LDO IC; Published: 1-Mar-2010; DatasheetVersion: Sep-2006; PackageVersion: revA, Oct-1989; PackageReference: T05D; Publisher: Altium Limited; PackageDescription: TO-220, Molded, Stagger Bend, 5 Lead; Supplier 1: Digi-Key; Supplier Part Number 1: LP3876ET-1.8-ND; RoHS: Y; PinCount: 5; ComponentLink1Description: LP3876 Datasheet; ComponentLink1URL: http://www.national.com/ds/LP/LP3876.pdf; ComponentLink2Description: LP3876 Web Page; ComponentLink2URL: http://www.national.com/pf/LP/LP3876.html; ComponentLink3Description: T05D Package Page; ComponentLink3URL: http://www.national.com/packaging/folders/t05d.html
footprint T05D (TO, Thru-Hole, Vertical, Heatsink Mounted; 5 Bent Staggered Leads; Body 10.3x8.6x4.6mm, Pitch 1.7 mm)
pins: 1 ~{SD} (in), 2 IN (power), 3 GND (power), 4 OUT (power), 5 SNS (in)

## LP3876ET-2.5
designator U?
3A Fast Ultra Low Dropout Linear Regulator, 5-pin TO-220; PartNumber: LP3876ET-2.5; Manufacturer: National Semiconductor; PackageTopMarking: NSUZXYTTE#*LP3876ET*-2.5; PowerWise: N; CompType: LDO IC; Published: 4-Dec-2008; DatasheetVersion: Sep-2006; PackageVersion: revA, Oct-1989; PackageReference: T05D; Publisher: Altium Limited; PackageDescription: TO-220, Molded, Stagger Bend, 5 Lead; Supplier 1: Farnell; Supplier Part Number 1: 8207020; RoHS: N; PinCount: 5; ComponentLink1Description: LP3876 Datasheet; ComponentLink1URL: http://www.national.com/ds/LP/LP3876.pdf; ComponentLink2Description: LP3876 Web Page; ComponentLink2URL: http://www.national.com/pf/LP/LP3876.html; ComponentLink3Description: T05D Package Page; ComponentLink3URL: http://www.national.com/packaging/folders/t05d.html
footprint T05D (TO, Thru-Hole, Vertical, Heatsink Mounted; 5 Bent Staggered Leads; Body 10.3x8.6x4.6mm, Pitch 1.7 mm)
pins: 1 ~{SD} (in), 2 IN (power), 3 GND (power), 4 OUT (power), 5 SNS (in)